# EAGLE library part HT1632C (library X893)
http://www.holtek.com/pdf/consumer/ht1632cv120.pdf
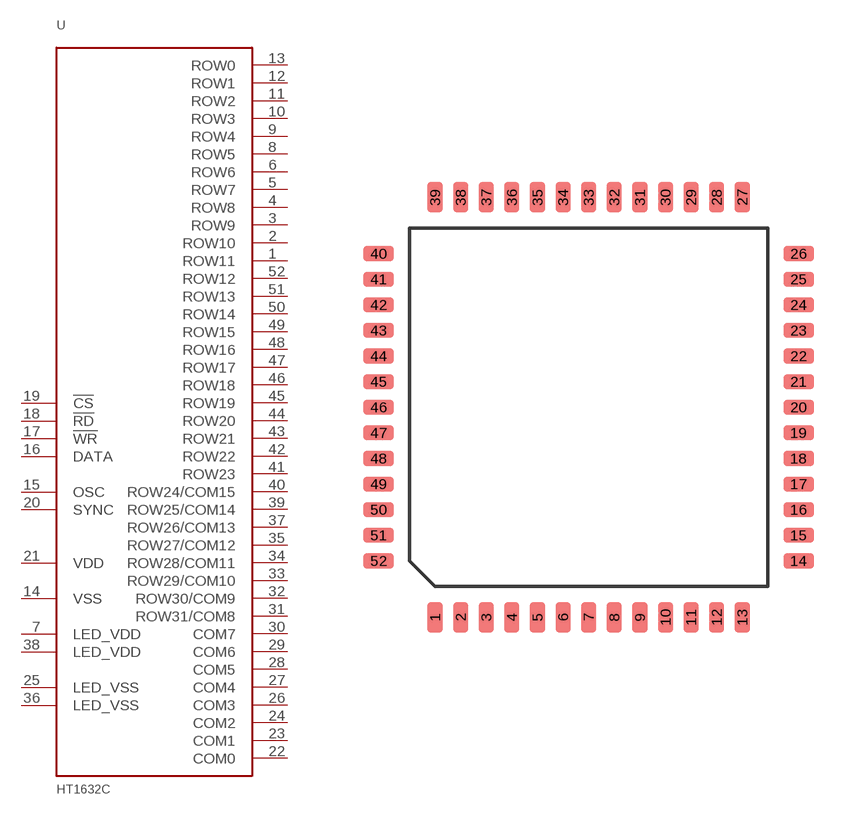
[diagram p169: symbol with the pads of TQFP52-14X14; footprint TQFP52-14X14]

Designator prefix U

## HT1632C  [TQFP52-14X14]
1  ROW11
2  ROW10
3  ROW9
4  ROW8
5  ROW7
6  ROW6
7  LED_VDD
8  ROW5
9  ROW4
10  ROW3
11  ROW2
12  ROW1
13  ROW0
14  VSS
15  OSC
16  DATA
17  !WR
18  !RD
19  !CS
20  SYNC
21  VDD
22  COM0
23  COM1
24  COM2
25  LED_VSS
26  COM3
27  COM4
28  COM5
29  COM6
30  COM7
31  ROW31/COM8
32  ROW30/COM9
33  ROW29/COM10
34  ROW28/COM11
35  ROW27/COM12
36  LED_VSS
37  ROW26/COM13
38  LED_VDD
39  ROW25/COM14
40  ROW24/COM15
41  ROW23
42  ROW22
43  ROW21
44  ROW20
45  ROW19
46  ROW18
47  ROW17
48  ROW16
49  ROW15
50  ROW14
51  ROW13
52  ROW12

## Footprint TQFP52-14X14 (pad centres in mm)
smd 0.6 x 1.2: 1 -6,-8.2; 2 -5,-8.2; 3 -4,-8.2; 4 -3,-8.2; 5 -2,-8.2; 6 -1,-8.2; 7 0,-8.2; 8 1,-8.2; 9 2,-8.2; 10 3,-8.2; 11 4,-8.2; 12 5,-8.2; 13 6,-8.2; 27 6,8.2; 28 5,8.2; 29 4,8.2; 30 3,8.2; 31 2,8.2; 32 1,8.2; 33 0,8.2; 34 -1,8.2; 35 -2,8.2; 36 -3,8.2; 37 -4,8.2; 38 -5,8.2; 39 -6,8.2
smd 1.2 x 0.6: 14 8.2,-6; 15 8.2,-5; 16 8.2,-4; 17 8.2,-3; 18 8.2,-2; 19 8.2,-1; 20 8.2,0; 21 8.2,1; 22 8.2,2; 23 8.2,3; 24 8.2,4; 25 8.2,5; 26 8.2,6; 40 -8.2,6; 41 -8.2,5; 42 -8.2,4; 43 -8.2,3; 44 -8.2,2; 45 -8.2,1; 46 -8.2,0; 47 -8.2,-1; 48 -8.2,-2; 49 -8.2,-3; 50 -8.2,-4; 51 -8.2,-5; 52 -8.2,-6